# EAGLE library part SIT9120AI-2D3-33E100.000000 (library SiT9120AI-2D3-33E100.000000)
Standard Frequency Differential Oscillator, 7 x 5mm, 6-Pin Package Source: Datasheet <https://www.sitime.com/support/resource-library/datasheets/sit9120-datasheet>
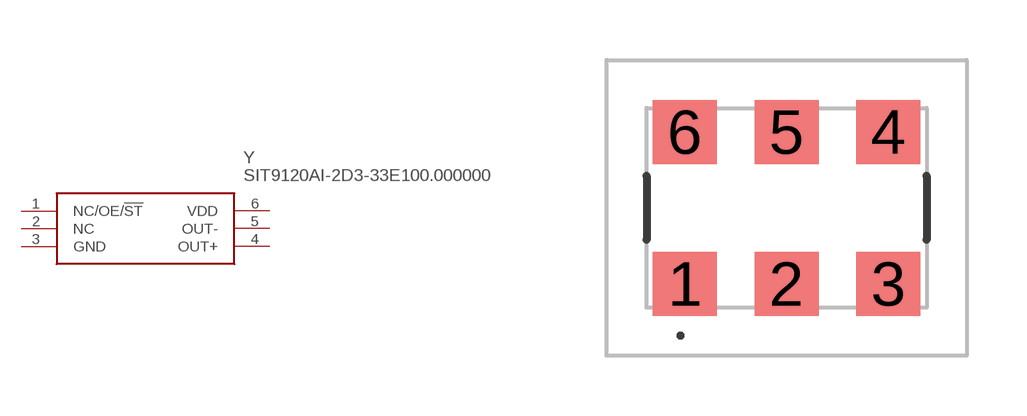
[diagram p0: symbol with the pads of QFN_7050_6pins; footprint QFN_7050_6pins]

Designator prefix Y

## SIT9120AI-2D3-33E100.000000 (Description: Standard Frequency Differential Oscillator, 7 x 5mm, 6-Pin Package; Height: 1mm; Manufacturer_Name: SiTime; Manufacturer_Part_Number: SiT9120AI-2D3-33E100.000000)  [QFN_7050_6pins]
1  NC/OE/!ST
2  NC  nc
3  GND
4  OUT+
5  OUT-
6  VDD

## Footprint QFN_7050_6pins (pad centres in mm)
QFN_7050_6pins
smd 1.6 x 1.6: 1 -2.54,-1.9; 2 0,-1.9; 3 2.54,-1.9; 4 2.54,1.9; 5 0,1.9; 6 -2.54,1.9